# Altium schematic symbol library CMT-8504-100-SMT-TR.SchLib: 1 symbol
Pins are listed as number, name and electrical type; pins without a type are passive.

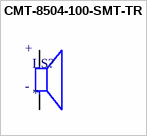
[diagram p0: symbol CMT-8504-100-SMT-TR]

## CMT-8504-100-SMT-TR
designator LS?
8.5 mm, 5 Vo-p, 100 dB, Surface Mount (SMT), Magnetic Audio Transducer Buzzer; MP: CMT-8504-100-SMT-TR; MF: CUI Devices; Package: CUI Devices; Purchase-URL: https://pricing.snapeda.com/search/part/CMT-8504-100-SMT-TR/?ref=eda; Price: None; Availability: In Stock; Check_prices: https://www.snapeda.com/parts/CMT-8504-100-SMT-TR/CUI+Devices/view-part/?ref=eda; Value: *; SnapEDA_Link: https://www.snapeda.com/parts/CMT-8504-100-SMT-TR/CUI+Devices/view-part/?ref=snap; CUI_purchase_URL: https://www.cuidevices.com/product/audio/buzzers/audio-transducers/cmt-8504-100-smt-tr?utm_source=snapeda.com&utm_medium=referral&utm_campaign=snapedaBOM
footprint XDCR_CMT-8504-100-SMT-TR
pins: N, P
text: +; -